# Altium footprint library Switcher.PcbLib: 128 footprints (part 8 of 9)
Each footprint in its own frame and in the unit in brackets; x right, y up, seen from the top. Pads: shape width x height; smd on the part's side, far side on the other; paste and mask are expansions set on the pad; w line width, h text height; cw(c..) or ccw(c..) is an arc to the next point about the centre after c.
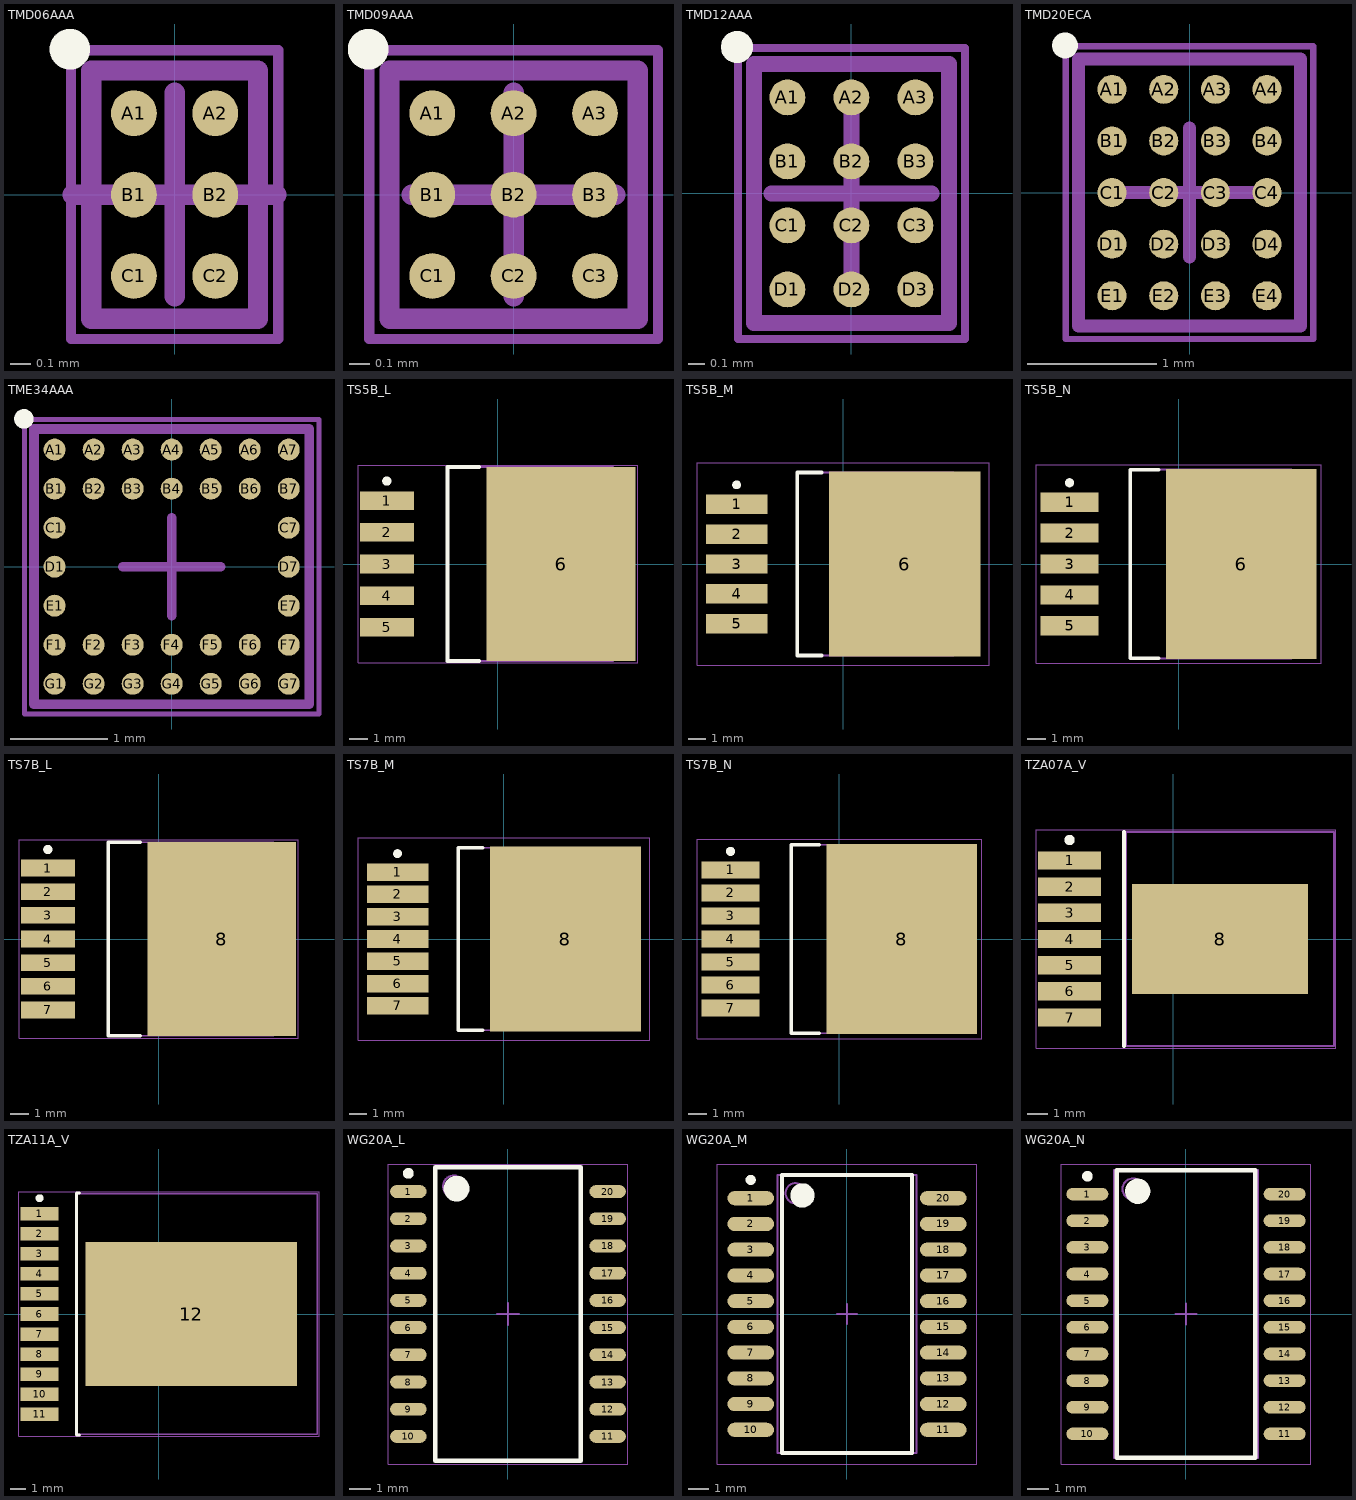
[diagram p7: the footprints below, top view; thin cyan lines are the x and y axes]

## TMD06AAA [mm] "Micro SMD, 6-Leads, Body 1.22x0.82mm, Pitch 0.4mm, NSC Recommended"
height 0.68
pads (6):
  round 0.225 smd paste-0.112 mask+0.05: A1(-0.2,0.4) A2(0.2,0.4) B1(-0.2,0) B2(0.2,0) C1(-0.2,-0.4) C2(0.2,-0.4)
Top Overlay:
  circle w0.1: c-0.515,0.715 r0.05
Top Paste:
  circle w0.05: c0.275,-0.475 r0.025
  circle w0.05: c0.125,-0.325 r0.025
  circle w0.05: c0.125,-0.475 r0.025
  circle w0.05: c0.275,-0.325 r0.025
  circle w0.05: c-0.125,-0.475 r0.025
  circle w0.05: c-0.275,-0.325 r0.025
  circle w0.05: c-0.275,-0.475 r0.025
  circle w0.05: c-0.125,-0.325 r0.025
  circle w0.05: c0.275,-0.075 r0.025
  circle w0.05: c0.125,0.075 r0.025
  circle w0.05: c0.125,-0.075 r0.025
  circle w0.05: c0.275,0.075 r0.025
  circle w0.05: c-0.125,-0.075 r0.025
  circle w0.05: c-0.275,0.075 r0.025
  circle w0.05: c-0.275,-0.075 r0.025
  circle w0.05: c-0.125,0.075 r0.025
  circle w0.05: c0.275,0.325 r0.025
  circle w0.05: c0.125,0.475 r0.025
  circle w0.05: c0.125,0.325 r0.025
  circle w0.05: c0.275,0.475 r0.025
  circle w0.05: c-0.125,0.325 r0.025
  circle w0.05: c-0.275,0.475 r0.025
  circle w0.05: c-0.275,0.325 r0.025
  circle w0.05: c-0.125,0.475 r0.025
  region: 0.125,-0.325 0.125,-0.475 0.275,-0.475 0.275,-0.325
  region: 0.325,-0.475 0.325,-0.325 0.275,-0.325 0.275,-0.475
  region: 0.275,-0.275 0.125,-0.275 0.125,-0.325 0.275,-0.325
  region: 0.075,-0.325 0.075,-0.475 0.125,-0.475 0.125,-0.325
  rectangle: 0.125,-0.525 0.275,-0.475
  region: -0.275,-0.325 -0.275,-0.475 -0.125,-0.475 -0.125,-0.325
  region: -0.075,-0.475 -0.075,-0.325 -0.125,-0.325 -0.125,-0.475
  region: -0.125,-0.275 -0.275,-0.275 -0.275,-0.325 -0.125,-0.325
  region: -0.325,-0.325 -0.325,-0.475 -0.275,-0.475 -0.275,-0.325
  rectangle: -0.275,-0.525 -0.125,-0.475
  region: 0.125,0.075 0.125,-0.075 0.275,-0.075 0.275,0.075
  region: 0.325,-0.075 0.325,0.075 0.275,0.075 0.275,-0.075
  region: 0.275,0.125 0.125,0.125 0.125,0.075 0.275,0.075
  region: 0.075,0.075 0.075,-0.075 0.125,-0.075 0.125,0.075
  rectangle: 0.125,-0.125 0.275,-0.075
  region: -0.275,0.075 -0.275,-0.075 -0.125,-0.075 -0.125,0.075
  region: -0.075,-0.075 -0.075,0.075 -0.125,0.075 -0.125,-0.075
  region: -0.125,0.125 -0.275,0.125 -0.275,0.075 -0.125,0.075
  region: -0.325,0.075 -0.325,-0.075 -0.275,-0.075 -0.275,0.075
  rectangle: -0.275,-0.125 -0.125,-0.075
  region: 0.125,0.475 0.125,0.325 0.275,0.325 0.275,0.475
  region: 0.325,0.325 0.325,0.475 0.275,0.475 0.275,0.325
  region: 0.275,0.525 0.125,0.525 0.125,0.475 0.275,0.475
  region: 0.075,0.475 0.075,0.325 0.125,0.325 0.125,0.475
  rectangle: 0.125,0.275 0.275,0.325
  region: -0.275,0.475 -0.275,0.325 -0.125,0.325 -0.125,0.475
  region: -0.075,0.325 -0.075,0.475 -0.125,0.475 -0.125,0.325
  region: -0.125,0.525 -0.275,0.525 -0.275,0.475 -0.125,0.475
  region: -0.325,0.475 -0.325,0.325 -0.275,0.325 -0.275,0.475
  rectangle: -0.275,0.275 -0.125,0.325
Mechanical 13:
  lines w0.1: -0.41,-0.61 0.41,-0.61 0.41,0.61 -0.41,0.61 -0.41,-0.61
Mechanical 15:
  lines w0.05: -0.51,-0.71 0.51,-0.71 0.51,0.71 -0.51,0.71 -0.51,-0.71
  lines w0.1: -0.5,0 0.5,0 ; 0,-0.5 0,0.5
3D body: height 0.68, standoff 0, extent -0.41,-0.61 0.41,0.61

## TMD09AAA [mm] "Micro SMD, 9-Leads, Body 1.22x1.22mm, Pitch 0.4mm, NSC Recommended"
height 0.68
pads (9):
  round 0.225 smd paste-0.112 mask+0.05: A1(-0.4,0.4) A2(0,0.4) A3(0.4,0.4) B1(-0.4,0) B2(0,0) B3(0.4,0) C1(-0.4,-0.4) C2(0,-0.4) C3(0.4,-0.4)
Top Overlay:
  circle w0.1: c-0.715,0.715 r0.05
Top Paste:
  circle w0.05: c0.475,-0.475 r0.025
  circle w0.05: c0.325,-0.325 r0.025
  circle w0.05: c0.325,-0.475 r0.025
  circle w0.05: c0.475,-0.325 r0.025
  circle w0.05: c0.075,-0.475 r0.025
  circle w0.05: c-0.075,-0.325 r0.025
  circle w0.05: c-0.075,-0.475 r0.025
  circle w0.05: c0.075,-0.325 r0.025
  circle w0.05: c-0.325,-0.475 r0.025
  circle w0.05: c-0.475,-0.325 r0.025
  circle w0.05: c-0.475,-0.475 r0.025
  circle w0.05: c-0.325,-0.325 r0.025
  circle w0.05: c0.475,-0.075 r0.025
  circle w0.05: c0.325,0.075 r0.025
  circle w0.05: c0.325,-0.075 r0.025
  circle w0.05: c0.475,0.075 r0.025
  circle w0.05: c0.075,-0.075 r0.025
  circle w0.05: c-0.075,0.075 r0.025
  circle w0.05: c-0.075,-0.075 r0.025
  circle w0.05: c0.075,0.075 r0.025
  circle w0.05: c-0.325,-0.075 r0.025
  circle w0.05: c-0.475,0.075 r0.025
  circle w0.05: c-0.475,-0.075 r0.025
  circle w0.05: c-0.325,0.075 r0.025
  circle w0.05: c0.475,0.325 r0.025
  circle w0.05: c0.325,0.475 r0.025
  circle w0.05: c0.325,0.325 r0.025
  circle w0.05: c0.475,0.475 r0.025
  circle w0.05: c0.075,0.325 r0.025
  circle w0.05: c-0.075,0.475 r0.025
  circle w0.05: c-0.075,0.325 r0.025
  circle w0.05: c0.075,0.475 r0.025
  circle w0.05: c-0.325,0.325 r0.025
  circle w0.05: c-0.475,0.475 r0.025
  circle w0.05: c-0.475,0.325 r0.025
  circle w0.05: c-0.325,0.475 r0.025
  region: 0.325,-0.325 0.325,-0.475 0.475,-0.475 0.475,-0.325
  region: 0.525,-0.475 0.525,-0.325 0.475,-0.325 0.475,-0.475
  region: 0.475,-0.275 0.325,-0.275 0.325,-0.325 0.475,-0.325
  region: 0.275,-0.325 0.275,-0.475 0.325,-0.475 0.325,-0.325
  rectangle: 0.325,-0.525 0.475,-0.475
  region: -0.075,-0.325 -0.075,-0.475 0.075,-0.475 0.075,-0.325
  region: 0.125,-0.475 0.125,-0.325 0.075,-0.325 0.075,-0.475
  region: 0.075,-0.275 -0.075,-0.275 -0.075,-0.325 0.075,-0.325
  region: -0.125,-0.325 -0.125,-0.475 -0.075,-0.475 -0.075,-0.325
  rectangle: -0.075,-0.525 0.075,-0.475
  region: -0.475,-0.325 -0.475,-0.475 -0.325,-0.475 -0.325,-0.325
  region: -0.275,-0.475 -0.275,-0.325 -0.325,-0.325 -0.325,-0.475
  region: -0.325,-0.275 -0.475,-0.275 -0.475,-0.325 -0.325,-0.325
  region: -0.525,-0.325 -0.525,-0.475 -0.475,-0.475 -0.475,-0.325
  rectangle: -0.475,-0.525 -0.325,-0.475
  region: 0.325,0.075 0.325,-0.075 0.475,-0.075 0.475,0.075
  region: 0.525,-0.075 0.525,0.075 0.475,0.075 0.475,-0.075
  region: 0.475,0.125 0.325,0.125 0.325,0.075 0.475,0.075
  region: 0.275,0.075 0.275,-0.075 0.325,-0.075 0.325,0.075
  rectangle: 0.325,-0.125 0.475,-0.075
  region: -0.075,0.075 -0.075,-0.075 0.075,-0.075 0.075,0.075
  region: 0.125,-0.075 0.125,0.075 0.075,0.075 0.075,-0.075
  region: 0.075,0.125 -0.075,0.125 -0.075,0.075 0.075,0.075
  region: -0.125,0.075 -0.125,-0.075 -0.075,-0.075 -0.075,0.075
  rectangle: -0.075,-0.125 0.075,-0.075
  region: -0.475,0.075 -0.475,-0.075 -0.325,-0.075 -0.325,0.075
  region: -0.275,-0.075 -0.275,0.075 -0.325,0.075 -0.325,-0.075
  region: -0.325,0.125 -0.475,0.125 -0.475,0.075 -0.325,0.075
  region: -0.525,0.075 -0.525,-0.075 -0.475,-0.075 -0.475,0.075
  rectangle: -0.475,-0.125 -0.325,-0.075
  region: 0.325,0.475 0.325,0.325 0.475,0.325 0.475,0.475
  region: 0.525,0.325 0.525,0.475 0.475,0.475 0.475,0.325
  region: 0.475,0.525 0.325,0.525 0.325,0.475 0.475,0.475
  region: 0.275,0.475 0.275,0.325 0.325,0.325 0.325,0.475
  rectangle: 0.325,0.275 0.475,0.325
  region: -0.075,0.475 -0.075,0.325 0.075,0.325 0.075,0.475
  region: 0.125,0.325 0.125,0.475 0.075,0.475 0.075,0.325
  region: 0.075,0.525 -0.075,0.525 -0.075,0.475 0.075,0.475
  region: -0.125,0.475 -0.125,0.325 -0.075,0.325 -0.075,0.475
  rectangle: -0.075,0.275 0.075,0.325
  region: -0.475,0.475 -0.475,0.325 -0.325,0.325 -0.325,0.475
  region: -0.275,0.325 -0.275,0.475 -0.325,0.475 -0.325,0.325
  region: -0.325,0.525 -0.475,0.525 -0.475,0.475 -0.325,0.475
  region: -0.525,0.475 -0.525,0.325 -0.475,0.325 -0.475,0.475
  rectangle: -0.475,0.275 -0.325,0.325
Mechanical 13:
  lines w0.1: -0.61,-0.61 0.61,-0.61 0.61,0.61 -0.61,0.61 -0.61,-0.61
Mechanical 15:
  lines w0.05: -0.71,-0.71 0.71,-0.71 0.71,0.71 -0.71,0.71 -0.71,-0.71
  lines w0.1: -0.5,0 0.5,0 ; 0,-0.5 0,0.5
3D body: height 0.68, standoff 0, extent -0.61,-0.61 0.61,0.61

## TMD12AAA [mm] "Micro SMD, 12-Leads, Body 1.62x1.22mm, Pitch 0.4mm, NSC Recommended"
height 0.68
pads (12):
  round 0.225 smd paste-0.112 mask+0.05: A1(-0.4,0.6) A2(0,0.6) A3(0.4,0.6) B1(-0.4,0.2) B2(0,0.2) B3(0.4,0.2) C1(-0.4,-0.2) C2(0,-0.2) C3(0.4,-0.2) D1(-0.4,-0.6) D2(0,-0.6) D3(0.4,-0.6)
Top Overlay:
  circle w0.1: c-0.715,0.915 r0.05
Top Paste:
  circle w0.05: c0.475,-0.675 r0.025
  circle w0.05: c0.325,-0.525 r0.025
  circle w0.05: c0.325,-0.675 r0.025
  circle w0.05: c0.475,-0.525 r0.025
  circle w0.05: c0.075,-0.675 r0.025
  circle w0.05: c-0.075,-0.525 r0.025
  circle w0.05: c-0.075,-0.675 r0.025
  circle w0.05: c0.075,-0.525 r0.025
  circle w0.05: c-0.325,-0.675 r0.025
  circle w0.05: c-0.475,-0.525 r0.025
  circle w0.05: c-0.475,-0.675 r0.025
  circle w0.05: c-0.325,-0.525 r0.025
  circle w0.05: c0.475,-0.275 r0.025
  circle w0.05: c0.325,-0.125 r0.025
  circle w0.05: c0.325,-0.275 r0.025
  circle w0.05: c0.475,-0.125 r0.025
  circle w0.05: c0.075,-0.275 r0.025
  circle w0.05: c-0.075,-0.125 r0.025
  circle w0.05: c-0.075,-0.275 r0.025
  circle w0.05: c0.075,-0.125 r0.025
  circle w0.05: c-0.325,-0.275 r0.025
  circle w0.05: c-0.475,-0.125 r0.025
  circle w0.05: c-0.475,-0.275 r0.025
  circle w0.05: c-0.325,-0.125 r0.025
  circle w0.05: c0.475,0.125 r0.025
  circle w0.05: c0.325,0.275 r0.025
  circle w0.05: c0.325,0.125 r0.025
  circle w0.05: c0.475,0.275 r0.025
  circle w0.05: c0.075,0.125 r0.025
  circle w0.05: c-0.075,0.275 r0.025
  circle w0.05: c-0.075,0.125 r0.025
  circle w0.05: c0.075,0.275 r0.025
  circle w0.05: c-0.325,0.125 r0.025
  circle w0.05: c-0.475,0.275 r0.025
  circle w0.05: c-0.475,0.125 r0.025
  circle w0.05: c-0.325,0.275 r0.025
  circle w0.05: c0.475,0.525 r0.025
  circle w0.05: c0.325,0.675 r0.025
  circle w0.05: c0.325,0.525 r0.025
  circle w0.05: c0.475,0.675 r0.025
  circle w0.05: c0.075,0.525 r0.025
  circle w0.05: c-0.075,0.675 r0.025
  circle w0.05: c-0.075,0.525 r0.025
  circle w0.05: c0.075,0.675 r0.025
  circle w0.05: c-0.325,0.525 r0.025
  circle w0.05: c-0.475,0.675 r0.025
  circle w0.05: c-0.475,0.525 r0.025
  circle w0.05: c-0.325,0.675 r0.025
  region: 0.325,-0.525 0.325,-0.675 0.475,-0.675 0.475,-0.525
  region: 0.525,-0.675 0.525,-0.525 0.475,-0.525 0.475,-0.675
  region: 0.475,-0.475 0.325,-0.475 0.325,-0.525 0.475,-0.525
  region: 0.275,-0.525 0.275,-0.675 0.325,-0.675 0.325,-0.525
  rectangle: 0.325,-0.725 0.475,-0.675
  region: -0.075,-0.525 -0.075,-0.675 0.075,-0.675 0.075,-0.525
  region: 0.125,-0.675 0.125,-0.525 0.075,-0.525 0.075,-0.675
  region: 0.075,-0.475 -0.075,-0.475 -0.075,-0.525 0.075,-0.525
  region: -0.125,-0.525 -0.125,-0.675 -0.075,-0.675 -0.075,-0.525
  rectangle: -0.075,-0.725 0.075,-0.675
  region: -0.475,-0.525 -0.475,-0.675 -0.325,-0.675 -0.325,-0.525
  region: -0.275,-0.675 -0.275,-0.525 -0.325,-0.525 -0.325,-0.675
  region: -0.325,-0.475 -0.475,-0.475 -0.475,-0.525 -0.325,-0.525
  region: -0.525,-0.525 -0.525,-0.675 -0.475,-0.675 -0.475,-0.525
  rectangle: -0.475,-0.725 -0.325,-0.675
  region: 0.325,-0.125 0.325,-0.275 0.475,-0.275 0.475,-0.125
  region: 0.525,-0.275 0.525,-0.125 0.475,-0.125 0.475,-0.275
  region: 0.475,-0.075 0.325,-0.075 0.325,-0.125 0.475,-0.125
  region: 0.275,-0.125 0.275,-0.275 0.325,-0.275 0.325,-0.125
  rectangle: 0.325,-0.325 0.475,-0.275
  region: -0.075,-0.125 -0.075,-0.275 0.075,-0.275 0.075,-0.125
  region: 0.125,-0.275 0.125,-0.125 0.075,-0.125 0.075,-0.275
  region: 0.075,-0.075 -0.075,-0.075 -0.075,-0.125 0.075,-0.125
  region: -0.125,-0.125 -0.125,-0.275 -0.075,-0.275 -0.075,-0.125
  rectangle: -0.075,-0.325 0.075,-0.275
  region: -0.475,-0.125 -0.475,-0.275 -0.325,-0.275 -0.325,-0.125
  region: -0.275,-0.275 -0.275,-0.125 -0.325,-0.125 -0.325,-0.275
  region: -0.325,-0.075 -0.475,-0.075 -0.475,-0.125 -0.325,-0.125
  region: -0.525,-0.125 -0.525,-0.275 -0.475,-0.275 -0.475,-0.125
  rectangle: -0.475,-0.325 -0.325,-0.275
  region: 0.325,0.275 0.325,0.125 0.475,0.125 0.475,0.275
  region: 0.525,0.125 0.525,0.275 0.475,0.275 0.475,0.125
  region: 0.475,0.325 0.325,0.325 0.325,0.275 0.475,0.275
  region: 0.275,0.275 0.275,0.125 0.325,0.125 0.325,0.275
  rectangle: 0.325,0.075 0.475,0.125
  region: -0.075,0.275 -0.075,0.125 0.075,0.125 0.075,0.275
  region: 0.125,0.125 0.125,0.275 0.075,0.275 0.075,0.125
  region: 0.075,0.325 -0.075,0.325 -0.075,0.275 0.075,0.275
  region: -0.125,0.275 -0.125,0.125 -0.075,0.125 -0.075,0.275
  rectangle: -0.075,0.075 0.075,0.125
  region: -0.475,0.275 -0.475,0.125 -0.325,0.125 -0.325,0.275
  region: -0.275,0.125 -0.275,0.275 -0.325,0.275 -0.325,0.125
  region: -0.325,0.325 -0.475,0.325 -0.475,0.275 -0.325,0.275
  region: -0.525,0.275 -0.525,0.125 -0.475,0.125 -0.475,0.275
  rectangle: -0.475,0.075 -0.325,0.125
  region: 0.325,0.675 0.325,0.525 0.475,0.525 0.475,0.675
  region: 0.525,0.525 0.525,0.675 0.475,0.675 0.475,0.525
  region: 0.475,0.725 0.325,0.725 0.325,0.675 0.475,0.675
  region: 0.275,0.675 0.275,0.525 0.325,0.525 0.325,0.675
  rectangle: 0.325,0.475 0.475,0.525
  region: -0.075,0.675 -0.075,0.525 0.075,0.525 0.075,0.675
  region: 0.125,0.525 0.125,0.675 0.075,0.675 0.075,0.525
  region: 0.075,0.725 -0.075,0.725 -0.075,0.675 0.075,0.675
  region: -0.125,0.675 -0.125,0.525 -0.075,0.525 -0.075,0.675
  rectangle: -0.075,0.475 0.075,0.525
  region: -0.475,0.675 -0.475,0.525 -0.325,0.525 -0.325,0.675
  region: -0.275,0.525 -0.275,0.675 -0.325,0.675 -0.325,0.525
  region: -0.325,0.725 -0.475,0.725 -0.475,0.675 -0.325,0.675
  region: -0.525,0.675 -0.525,0.525 -0.475,0.525 -0.475,0.675
  rectangle: -0.475,0.475 -0.325,0.525
Mechanical 13:
  lines w0.1: -0.61,-0.81 0.61,-0.81 0.61,0.81 -0.61,0.81 -0.61,-0.81
Mechanical 15:
  lines w0.05: -0.71,-0.91 0.71,-0.91 0.71,0.91 -0.71,0.91 -0.71,-0.91
  lines w0.1: -0.5,0 0.5,0 ; 0,-0.5 0,0.5
3D body: height 0.68, standoff 0, extent -0.61,-0.81 0.61,0.81

## TMD20ECA [mm] "Micro SMD, 20-Leads, Body 2.07x1.72mm, Pitch 0.4mm, NSC Recommended"
height 0.68
pads (20):
  round 0.225 smd paste-0.112 mask+0.05: A1(-0.6,0.8) A2(-0.2,0.8) A3(0.2,0.8) A4(0.6,0.8) B1(-0.6,0.4) B2(-0.2,0.4) B3(0.2,0.4) B4(0.6,0.4) C1(-0.6,0) C2(-0.2,0) C3(0.2,0) C4(0.6,0) D1(-0.6,-0.4) D2(-0.2,-0.4) D3(0.2,-0.4) D4(0.6,-0.4) E1(-0.6,-0.8) E2(-0.2,-0.8) E3(0.2,-0.8) E4(0.6,-0.8)
Top Overlay:
  circle w0.1: c-0.965,1.14 r0.05
Top Paste:
  drawing of 180 lines, arcs and shapes, not listed
Mechanical 13:
  lines w0.1: -0.86,-1.035 0.86,-1.035 0.86,1.035 -0.86,1.035 -0.86,-1.035
Mechanical 15:
  lines w0.05: -0.96,-1.135 0.96,-1.135 0.96,1.135 -0.96,1.135 -0.96,-1.135
  lines w0.1: -0.5,0 0.5,0 ; 0,-0.5 0,0.5
3D body: height 0.68, standoff 0, extent -0.86,-1.035 0.86,1.035

## TME34AAA [mm] "Micro SMD, 34-Leads, Body 2.82x2.82mm, Pitch 0.4mm, NSC Recommended"
height 0.68
pads (34):
  round 0.225 smd paste-0.112 mask+0.05: A1(-1.2,1.2) A2(-0.8,1.2) A3(-0.4,1.2) A4(0,1.2) A5(0.4,1.2) A6(0.8,1.2) A7(1.2,1.2) B1(-1.2,0.8) B2(-0.8,0.8) B3(-0.4,0.8) B4(0,0.8) B5(0.4,0.8) B6(0.8,0.8) B7(1.2,0.8) C1(-1.2,0.4) C7(1.2,0.4) D1(-1.2,0) D7(1.2,0) E1(-1.2,-0.4) E7(1.2,-0.4) F1(-1.2,-0.8) F2(-0.8,-0.8) F3(-0.4,-0.8) F4(0,-0.8) F5(0.4,-0.8) F6(0.8,-0.8) F7(1.2,-0.8) G1(-1.2,-1.2) G2(-0.8,-1.2) G3(-0.4,-1.2) G4(0,-1.2) G5(0.4,-1.2) G6(0.8,-1.2) G7(1.2,-1.2)
Top Overlay:
  circle w0.1: c-1.515,1.515 r0.05
Top Paste:
  drawing of 306 lines, arcs and shapes, not listed
Mechanical 13:
  lines w0.1: -1.41,-1.41 1.41,-1.41 1.41,1.41 -1.41,1.41 -1.41,-1.41
Mechanical 15:
  lines w0.05: -1.51,-1.51 1.51,-1.51 1.51,1.51 -1.51,1.51 -1.51,-1.51
  lines w0.1: -0.5,0 0.5,0 ; 0,-0.5 0,0.5

## TS5B_L [mm] "D2-PAK, 6-Leads, Body 8.6x10.2mm, Pitch 1.7mm, Lead Span 14.1mm, IPC High Density"
height 4.65
pads (6):
  rect 2.9x1 smd: 1(-5.95,3.4) 2(-5.95,1.7) 3(-5.95,0) 4(-5.95,-1.7) 5(-5.95,-3.4)
  rect 8x10.4 smd: 6(3.4,0)
Top Overlay:
  circle w0.25: c-5.95,4.45 r0.125
  lines w0.2: -1,-5.2 -2.7,-5.2 -2.7,5.2 -1,5.2
Mechanical 13:
  lines w0.1: -2.7,-5.2 6.19,-5.2 6.19,5.2 -2.7,5.2 -2.7,-5.2
Mechanical 15:
  lines w0.05: -7.5,-5.3 7.5,-5.3 7.5,5.3 -7.5,5.3 -7.5,-5.3
  lines w0.1: -0.5,0 0.5,0 ; 0,-0.5 0,0.5
3D body: height 4.65, standoff 0, extent -2.7,-5.2 6.19,5.2

## TS5B_M [mm] "D2-PAK, 6-Leads, Body 8.6x10.2mm, Pitch 1.7mm, Lead Span 14.1mm, IPC Low Density"
height 4.65
pads (6):
  rect 3.5x1.1 smd: 1(-6.05,3.4) 2(-6.05,1.7) 3(-6.05,0) 4(-6.05,-1.7) 5(-6.05,-3.4)
  rect 8.6x10.5 smd: 6(3.5,0)
Top Overlay:
  circle w0.25: c-6.05,4.5 r0.125
  lines w0.2: -1.2,-5.2 -2.6,-5.2 -2.6,5.2 -1.2,5.2
Mechanical 13:
  lines w0.1: -2.6,-5.2 6.29,-5.2 6.29,5.2 -2.6,5.2 -2.6,-5.2
Mechanical 15:
  lines w0.05: -8.3,-5.75 8.3,-5.75 8.3,5.75 -8.3,5.75 -8.3,-5.75
  lines w0.1: -0.5,0 0.5,0 ; 0,-0.5 0,0.5
3D body: height 4.65, standoff 0, extent -2.6,-5.2 6.29,5.2

## TS5B_N [mm] "D2-PAK, 6-Leads, Body 8.6x10.2mm, Pitch 1.7mm, Lead Span 14.1mm, IPC Medium Density"
height 4.65
pads (6):
  rect 3.2x1.05 smd: 1(-6,3.4) 2(-6,1.7) 3(-6,0) 4(-6,-1.7) 5(-6,-3.4)
  rect 8.3x10.45 smd: 6(3.45,0)
Top Overlay:
  circle w0.25: c-6,4.475 r0.125
  lines w0.2: -1.1,-5.2 -2.65,-5.2 -2.65,5.2 -1.1,5.2
Mechanical 13:
  lines w0.1: -2.65,-5.2 6.24,-5.2 6.24,5.2 -2.65,5.2 -2.65,-5.2
Mechanical 15:
  lines w0.05: -7.85,-5.475 7.85,-5.475 7.85,5.475 -7.85,5.475 -7.85,-5.475
  lines w0.1: -0.5,0 0.5,0 ; 0,-0.5 0,0.5
3D body: height 4.65, standoff 0, extent -2.65,-5.2 6.24,5.2

## TS7B_L [mm] "D2-PAK, 8-Leads, Body 8.6x10.2mm, Pitch 1.27mm, Lead Span 14.1mm, IPC High Density"
height 4.64
pads (8):
  rect 2.9x0.9 smd: 1(-5.95,3.81) 2(-5.95,2.54) 3(-5.95,1.27) 4(-5.95,0) 5(-5.95,-1.27) 6(-5.95,-2.54) 7(-5.95,-3.81)
  rect 8x10.45 smd: 8(3.4,0)
Top Overlay:
  circle w0.25: c-5.95,4.81 r0.125
  lines w0.2: -1,-5.2 -2.7,-5.2 -2.7,5.2 -1,5.2
Mechanical 13:
  lines w0.1: -2.7,-5.2 6.19,-5.2 6.19,5.2 -2.7,5.2 -2.7,-5.2
Mechanical 15:
  lines w0.05: -7.5,-5.325 7.5,-5.325 7.5,5.325 -7.5,5.325 -7.5,-5.325
  lines w0.1: -0.5,0 0.5,0 ; 0,-0.5 0,0.5
3D body: height 4.64, standoff 0, extent -2.7,-5.2 6.19,5.2

## TS7B_M [mm] "D2-PAK, 8-Leads, Body 8.6x10.2mm, Pitch 1.27mm, Lead Span 14.1mm, IPC Low Density"
height 4.64
pads (8):
  rect 3.5x1 smd: 1(-6.05,3.81) 2(-6.05,2.54) 3(-6.05,1.27) 4(-6.05,0) 5(-6.05,-1.27) 6(-6.05,-2.54) 7(-6.05,-3.81)
  rect 8.6x10.55 smd: 8(3.5,0)
Top Overlay:
  circle w0.25: c-6.05,4.86 r0.125
  lines w0.2: -1.2,-5.2 -2.6,-5.2 -2.6,5.2 -1.2,5.2
Mechanical 13:
  lines w0.1: -2.6,-5.2 6.29,-5.2 6.29,5.2 -2.6,5.2 -2.6,-5.2
Mechanical 15:
  lines w0.05: -8.3,-5.775 8.3,-5.775 8.3,5.775 -8.3,5.775 -8.3,-5.775
  lines w0.1: -0.5,0 0.5,0 ; 0,-0.5 0,0.5
3D body: height 4.64, standoff 0, extent -2.6,-5.2 6.29,5.2

## TS7B_N [mm] "D2-PAK, 8-Leads, Body 8.6x10.2mm, Pitch 1.27mm, Lead Span 14.1mm, IPC Medium Density"
height 4.64
pads (8):
  rect 3.2x0.95 smd: 1(-6,3.81) 2(-6,2.54) 3(-6,1.27) 4(-6,0) 5(-6,-1.27) 6(-6,-2.54) 7(-6,-3.81)
  rect 8.3x10.5 smd: 8(3.45,0)
Top Overlay:
  circle w0.25: c-6,4.835 r0.125
  lines w0.2: -1.1,-5.2 -2.65,-5.2 -2.65,5.2 -1.1,5.2
Mechanical 13:
  lines w0.1: -2.65,-5.2 6.24,-5.2 6.24,5.2 -2.65,5.2 -2.65,-5.2
Mechanical 15:
  lines w0.05: -7.85,-5.5 7.85,-5.5 7.85,5.5 -7.85,5.5 -7.85,-5.5
  lines w0.1: -0.5,0 0.5,0 ; 0,-0.5 0,0.5
3D body: height 4.64, standoff 0, extent -2.65,-5.2 6.24,5.2

## TZA07A_V [mm] "D2-PAK, 8-Leads, Body 9.9x10.2mm, Pitch 1.27mm, Lead Span 13.8mm, NSC Recommended"
height 4.67
pads (8):
  rect 3.06x0.89 smd: 1(-5.03,3.81) 2(-5.03,2.54) 3(-5.03,1.27) 4(-5.03,0) 5(-5.03,-1.27) 6(-5.03,-2.54) 7(-5.03,-3.81)
  rect 8.54x5.35 smd: 8(2.28,0)
Top Overlay:
  circle w0.25: c-5.03,4.805 r0.125
  lines w0.2: -2.39,-5.2 -2.39,5.2
Mechanical 13:
  lines w0.1: -2.3,-5.2 7.801,-5.2 7.801,5.2 -2.3,5.2 -2.3,-5.2
Mechanical 15:
  lines w0.05: -6.66,-5.3 7.9,-5.3 7.9,5.3 -6.66,5.3 -6.66,-5.3
  lines w0.1: -0.5,0 0.5,0 ; 0,-0.5 0,0.5
3D body: height 4.67, standoff 0, extent -2.3,-5.2 7.801,5.2

## TZA11A_V [mm] "TO, 12-Leads, Body 15x15mm, Pitch 1.27mm, Lead Span 17.8mm, NSC Recommended"
height 6
pads (12):
  rect 2.41x0.86 smd: 1(-7.54,6.35) 2(-7.54,5.08) 3(-7.54,3.81) 4(-7.54,2.54) 5(-7.54,1.27) 6(-7.54,0) 7(-7.54,-1.27) 8(-7.54,-2.54) 9(-7.54,-3.81) 10(-7.54,-5.08) 11(-7.54,-6.35)
  rect 13.37x9.126 smd: 12(2.06,0)
Top Overlay:
  circle w0.25: c-7.54,7.33 r0.125
  lines w0.2: -5.02,-7.65 -5.2,-7.65 -5.2,7.65 -5.02,7.65
Mechanical 13:
  lines w0.1: -5.2,-7.625 -5.2,7.625 10.05,7.625 10.05,-7.625 -5.2,-7.625
Mechanical 15:
  lines w0.05: -8.842,-7.725 -8.842,7.725 10.148,7.725 10.148,-7.725 -8.842,-7.725
  lines w0.1: -0.5,0 0.5,0 ; 0,-0.5 0,0.5
3D body: height 6, standoff 0, extent -5.2,-7.625 10.05,7.625

## WG20A_L [mm] "CERPACK, 20-Leads, Body 26.6x9.4mm, Pitch 1.27mm, IPC High Density"
height 2.5
pads (20):
  oval 1.7x0.6 smd: 1(-4.65,5.715) 2(-4.65,4.445) 3(-4.65,3.175) 4(-4.65,1.905) 5(-4.65,0.635) 6(-4.65,-0.635) 7(-4.65,-1.905) 8(-4.65,-3.175) 9(-4.65,-4.445) 10(-4.65,-5.715) 11(4.65,-5.715) 12(4.65,-4.445) 13(4.65,-3.175) 14(4.65,-1.905) 15(4.65,-0.635) 16(4.65,0.635) 17(4.65,1.905) 18(4.65,3.175) 19(4.65,4.445) 20(4.65,5.715)
Top Overlay:
  circle w0.25: c-4.65,6.565 r0.125
  circle w0.6: c-2.4,5.85 r0.3
  lines w0.2: -3.4,-6.85 -3.4,6.85 3.4,6.85 3.4,-6.85 -3.4,-6.85
Mechanical 13:
  circle w0.1: c-2.53,5.96 r0.5
  lines w0.1: -3.43,-6.86 -3.43,6.86 3.43,6.86 3.43,-6.86 -3.43,-6.86
Mechanical 15:
  lines w0.05: -5.6,-7 -5.6,7 5.6,7 5.6,-7 -5.6,-7
  lines w0.1: -0.5,0 0.5,0 ; 0,-0.5 0,0.5
3D body: height 2.5, standoff 0.1, extent -3.43,-6.86 3.43,6.86

## WG20A_M [mm] "CERPACK, 20-Leads, Body 26.6x9.4mm, Pitch 1.27mm, IPC Low Density"
height 2.5
pads (20):
  oval 2.3x0.7 smd: 1(-4.75,5.715) 2(-4.75,4.445) 3(-4.75,3.175) 4(-4.75,1.905) 5(-4.75,0.635) 6(-4.75,-0.635) 7(-4.75,-1.905) 8(-4.75,-3.175) 9(-4.75,-4.445) 10(-4.75,-5.715) 11(4.75,-5.715) 12(4.75,-4.445) 13(4.75,-3.175) 14(4.75,-1.905) 15(4.75,-0.635) 16(4.75,0.635) 17(4.75,1.905) 18(4.75,3.175) 19(4.75,4.445) 20(4.75,5.715)
Top Overlay:
  circle w0.25: c-4.75,6.615 r0.125
  circle w0.6: c-2.2,5.85 r0.3
  lines w0.2: -3.2,-6.85 -3.2,6.85 3.2,6.85 3.2,-6.85 -3.2,-6.85
Mechanical 13:
  circle w0.1: c-2.53,5.96 r0.5
  lines w0.1: -3.43,-6.86 -3.43,6.86 3.43,6.86 3.43,-6.86 -3.43,-6.86
Mechanical 15:
  lines w0.05: -6.4,-7.4 -6.4,7.4 6.4,7.4 6.4,-7.4 -6.4,-7.4
  lines w0.1: -0.5,0 0.5,0 ; 0,-0.5 0,0.5
3D body: height 2.5, standoff 0.1, extent -3.43,-6.86 3.43,6.86

## WG20A_N [mm] "CERPACK, 20-Leads, Body 26.6x9.4mm, Pitch 1.27mm, IPC Medium Density"
height 2.5
pads (20):
  oval 2x0.6 smd: 1(-4.7,5.715) 2(-4.7,4.445) 3(-4.7,3.175) 4(-4.7,1.905) 5(-4.7,0.635) 6(-4.7,-0.635) 7(-4.7,-1.905) 8(-4.7,-3.175) 9(-4.7,-4.445) 10(-4.7,-5.715) 11(4.7,-5.715) 12(4.7,-4.445) 13(4.7,-3.175) 14(4.7,-1.905) 15(4.7,-0.635) 16(4.7,0.635) 17(4.7,1.905) 18(4.7,3.175) 19(4.7,4.445) 20(4.7,5.715)
Top Overlay:
  circle w0.25: c-4.7,6.565 r0.125
  circle w0.6: c-2.3,5.85 r0.3
  lines w0.2: -3.3,-6.85 -3.3,6.85 3.3,6.85 3.3,-6.85 -3.3,-6.85
Mechanical 13:
  circle w0.1: c-2.53,5.96 r0.5
  lines w0.1: -3.43,-6.86 -3.43,6.86 3.43,6.86 3.43,-6.86 -3.43,-6.86
Mechanical 15:
  lines w0.05: -5.95,-7.15 -5.95,7.15 5.95,7.15 5.95,-7.15 -5.95,-7.15
  lines w0.1: -0.5,0 0.5,0 ; 0,-0.5 0,0.5
3D body: height 2.5, standoff 0.1, extent -3.43,-6.86 3.43,6.86